# Altium schematic symbol library STM32 V3.1.SCHLIB: 51 symbols
Pins are listed as number, name and electrical type; pins without a type are passive.

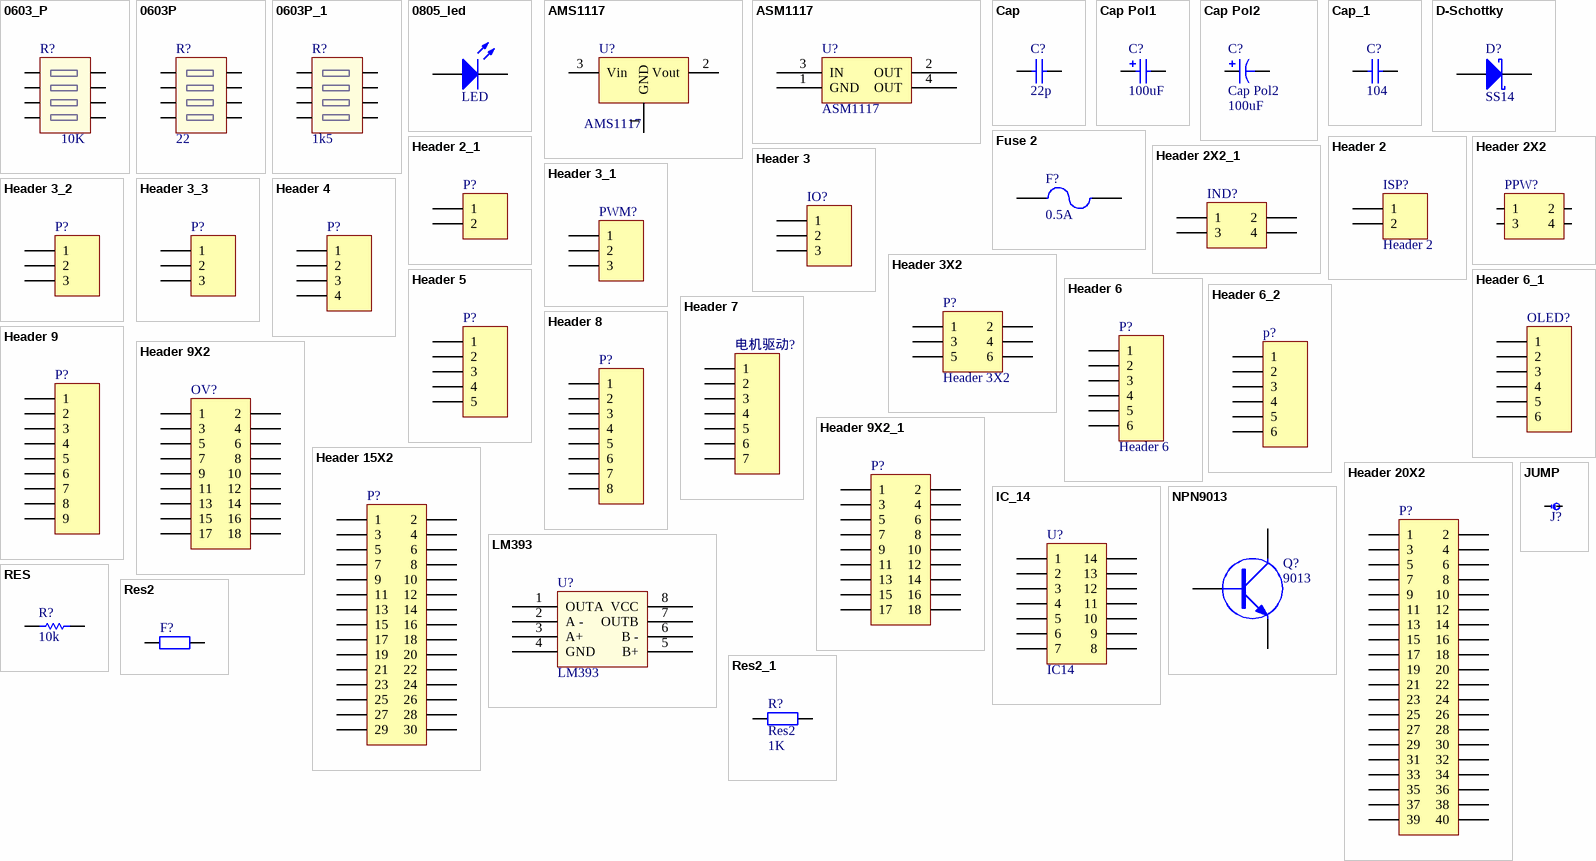
[diagram p0: symbols 0603_P to Res2_1]

## 0603_P
designator R?, comment 10K
footprint 0603_P
pins: 1, 2, 3, 4, 5, 6, 7, 8

## 0603P
designator R?, comment 22
footprint 0603_P
pins: 1, 2, 3, 4, 5, 6, 7, 8

## 0603P_1
designator R?, comment 1k5
footprint 0603排阻
footprint 0603_P
pins: 1, 2, 3, 4, 5, 6, 7, 8

## 0805_led
designator LED?, comment LED
footprint LED （大）
footprint LED（小）
footprint 0805
footprint led_0805
footprint 0805_led
pins: 1, 2

## AMS1117
designator U?
3.3V电压转换器AMS1117
footprint SOT_223 (电压转换芯片)
pins: 1 GND, 2 Vout, 3 Vin

## ASM1117
designator U?
3.3V稳压芯片
footprint SOT_223 (电压转换芯片)
pins: 1 GND, 2 OUT, 3 IN, 4 OUT

## Cap
designator C?  value 22p  (hidden comment: Cap)
footprint 0603_cap
footprint 0805_CAP
footprint 1206 _CAP
footprint Cap_tan
footprint CBB-200
footprint CBB-400
footprint C-CHIPIAN
footprint 0603_ca
pins: 1, 2

## Cap Pol1
designator C?  value 100uF  (hidden comment: Cap Pol1)
Polarized Capacitor (Radial); Published: 8-Jun-2000; Revision: July-2002: Re-released for DXP Platform.; Publisher: Altium Limited
footprint SMD-EC-F10 (Footprint not found)
simulation model CAP (Capacitor)
signal-integrity model Cap Pol
footprint CAPPR1.5-4X5
footprint CAPPR1.27-1.96X4.06
footprint CAPPR2-5X6.8
footprint CAPPR5-5X5
footprint CAPPR7.5-16X35
pins: 1, 2

## Cap Pol2
designator C?  value 100uF
Polarized Capacitor (Axial); Published: 8-Jun-2000; Revision: July-2002: Re-released for DXP Platform.; Publisher: Altium Limited
footprint SMD-EC-F6.3 (Footprint not found)
simulation model CAP (Capacitor)
signal-integrity model Cap Pol
footprint CAPPA14.05-10.5x6.3
footprint CAPPA23.6-18.5x8.5
footprint CAPPA31.6-26.5x12.5
footprint CAPPA35.6-30.5x18.5
footprint CAPPA46.1-41x21.5
pins: 1, 2

## Cap_1
designator C?, comment value 104  (hidden comment: Cap)
无极性电容; Published: 8-Jun-2000; LatestRevisionDate: 17-Jul-2002; LatestRevisionNote: Re-released for DXP Platform.; PackageReference: RAD-0.3; Publisher: Altium Limited
footprint C-RAD (瓷片电容)
footprint C-RAD-0805 (贴片电容)
footprint 0805
footprint 0603-2 (贴片无丝印)
footprint 0805-2 (贴片无丝印)
footprint C-RAD-3528 (贴片电容)
footprint 0805_cap
pins: 1, 2

## D-Schottky
designator D?  Type: SS14  (hidden comment: D-Schottky)
肖特基二极管; Published: 8-Jun-2000; LatestRevisionDate: 17-Jul-2002; LatestRevisionNote: Re-released for DXP Platform.; PackageReference: SMB; Publisher: Altium Limited; Code_JEDEC: DO-214-AA
footprint SMA (DO-214AC(2010))
footprint DIODE-SMC (SS34贴片肖特基二极管)
footprint DIODE-SMB (DO-214-AA/SMB; 2 C-Bend Leads; Body 5.3 x 3.6 mm, inc. leads (LxW))
pins: 1 A, 2 K

## Fuse 2
designator F?, comment value 0.5A  (hidden comment: Fuse)
保险丝; Published: 8-Jun-2000; LatestRevisionDate: 17-Jul-2002; LatestRevisionNote: Re-released for DXP Platform.; PackageReference: PIN-W2/E2.8; Publisher: Altium Limited
footprint 1206
pins: 1, 2

## Header 2
designator ISP?
Header, 2-Pin; LatestRevisionDate: 17-Jul-2002; LatestRevisionNote: Re-released for DXP Platform.; Publisher: Altium Limited
footprint HDR1X2 (Connector; Header; 2 Position)
signal-integrity model Connector
pins: 1, 2

## Header 2_1
designator P?, comment Header 2  (value not drawn)
Header, 2-Pin; LatestRevisionDate: 17-Jul-2002; LatestRevisionNote: Re-released for DXP Platform.; Publisher: Altium Limited
footprint kf142r
signal-integrity model Connector
pins: 1, 2

## Header 2X2
designator PPW?  (value not drawn)
Header, 2-Pin, Dual row; LatestRevisionDate: 17-Jul-2002; LatestRevisionNote: Re-released for DXP Platform.; Publisher: Altium Limited
footprint 稳压模块
signal-integrity model Connector
pins: 1, 2, 3, 4

## Header 2X2_1
designator IND?, comment Header 2X2  (value not drawn)
Header, 2-Pin, Dual row; LatestRevisionDate: 17-Jul-2002; LatestRevisionNote: Re-released for DXP Platform.; Publisher: Altium Limited
footprint IND_R10
signal-integrity model Connector
pins: 1, 2, 3, 4

## Header 3
designator IO?  (value not drawn)
Header, 3-Pin; LatestRevisionDate: 17-Jul-2002; LatestRevisionNote: Re-released for DXP Platform.; Publisher: Altium Limited
footprint HDR1X3 (Connector; Header; 3 Position)
signal-integrity model Connector
footprint HDR1X3H
footprint HDR1X3_
footprint HDR1X2_
pins: 1, 2, 3

## Header 3_1
designator PWM?, comment Header 3  (value not drawn)
Header, 3-Pin; LatestRevisionDate: 17-Jul-2002; LatestRevisionNote: Re-released for DXP Platform.; Publisher: Altium Limited
footprint HDR1X3
signal-integrity model Connector
footprint HDR1X3_
footprint HDR1X2_
pins: 1, 2, 3

## Header 3_2
designator P?, comment Header 3  (value not drawn)
Header, 3-Pin; LatestRevisionDate: 17-Jul-2002; LatestRevisionNote: Re-released for DXP Platform.; Publisher: Altium Limited
footprint HDR1X3_
signal-integrity model Connector
footprint HDR1X3_
footprint HDR1X2_
pins: 1, 2, 3

## Header 3_3
designator P?, comment Header 3  (value not drawn)
Header, 3-Pin; LatestRevisionDate: 17-Jul-2002; LatestRevisionNote: Re-released for DXP Platform.; Publisher: Altium Limited
signal-integrity model Connector
pins: 1, 2, 3

## Header 3X2
designator P?
Header, 3-Pin, Dual row; LatestRevisionDate: 17-Jul-2002; LatestRevisionNote: Re-released for DXP Platform.; Publisher: Altium Limited
footprint HDR2X3_
signal-integrity model Connector
pins: 1, 2, 3, 4, 5, 6

## Header 4
designator P?  (value not drawn)
Header, 4-Pin; LatestRevisionDate: 17-Jul-2002; LatestRevisionNote: Re-released for DXP Platform.; Publisher: Altium Limited
footprint HDR1X4
signal-integrity model Connector
pins: 1, 2, 3, 4

## Header 5
designator P?  (value not drawn)
Header, 5-Pin; LatestRevisionDate: 17-Jul-2002; LatestRevisionNote: Re-released for DXP Platform.; Publisher: Altium Limited
footprint a05 (Footprint not found)
signal-integrity model Connector
pins: 1, 2, 3, 4, 5

## Header 6
designator P?
Header, 6-Pin; LatestRevisionDate: 17-Jul-2002; LatestRevisionNote: Re-released for DXP Platform.; Publisher: Altium Limited
footprint HDR1X6 (Connector; Header; 6 Position)
signal-integrity model Connector
pins: 1, 2, 3, 4, 5, 6

## Header 6_1
designator OLED?, comment Header 6  (value not drawn)
Header, 6-Pin; Revision: 17-Jul-2002: Re-released for DXP Platform.; Publisher: Altium Limited
footprint HDR1X6_
signal-integrity model Connector
pins: 1, 2, 3, 4, 5, 6

## Header 6_2
designator p?, comment Header 6  (value not drawn)
Header, 6-Pin; Revision: 17-Jul-2002: Re-released for DXP Platform.; Publisher: Altium Limited
footprint HDR1X6
signal-integrity model Connector
pins: 1, 2, 3, 4, 5, 6

## Header 7
designator 电机驱动?  (value not drawn)
Header, 7-Pin; LatestRevisionDate: 17-Jul-2002; LatestRevisionNote: Re-released for DXP Platform.; Publisher: Altium Limited
footprint HDR1X7
signal-integrity model Connector
pins: 1, 2, 3, 4, 5, 6, 7

## Header 8
designator P?  (value not drawn)
Header, 8-Pin; LatestRevisionDate: 17-Jul-2002; LatestRevisionNote: Re-released for DXP Platform.; Publisher: Altium Limited
footprint HDR1X8_
signal-integrity model Connector
pins: 1, 2, 3, 4, 5, 6, 7, 8

## Header 9
designator P?  (value not drawn)
Header, 9-Pin; LatestRevisionDate: 17-Jul-2002; LatestRevisionNote: Re-released for DXP Platform.; Publisher: Altium Limited
footprint A09
signal-integrity model Connector
pins: 1, 2, 3, 4, 5, 6, 7, 8, 9

## Header 9X2
designator OV?  (value not drawn)
Header, 9-Pin, Dual row; LatestRevisionDate: 17-Jul-2002; LatestRevisionNote: Re-released for DXP Platform.; Publisher: Altium Limited
footprint IDC18
signal-integrity model Connector
pins: 1, 2, 3, 4, 5, 6, 7, 8, 9, 10, 11, 12, 13, 14, 15, 16, 17, 18

## Header 9X2_1
designator P?, comment Header 9X2  (value not drawn)
Header, 9-Pin, Dual row; LatestRevisionDate: 17-Jul-2002; LatestRevisionNote: Re-released for DXP Platform.; Publisher: Altium Limited
footprint JTAG_18
signal-integrity model Connector
pins: 1, 2, 3, 4, 5, 6, 7, 8, 9, 10, 11, 12, 13, 14, 15, 16, 17, 18

## Header 15X2
designator P?, comment Header 15X2_  (value not drawn)
Header, 15-Pin, Dual row; LatestRevisionDate: 17-Jul-2002; LatestRevisionNote: Re-released for DXP Platform.; Publisher: Altium Limited
footprint HDR2X15_ (Footprint not found)
signal-integrity model Connector
footprint HDR2X15___
pins: 1, 2, 3, 4, 5, 6, 7, 8, 9, 10, 11, 12, 13, 14, 15, 16, 17, 18, 19, 20, 21, 22, 23, 24, 25, 26, 27, 28, 29, 30

## Header 20X2
designator P?  (value not drawn)
Header, 20-Pin, Dual row; LatestRevisionDate: 17-Jul-2002; LatestRevisionNote: Re-released for DXP Platform.; Publisher: Altium Limited
footprint TFT_2.4
signal-integrity model Connector
footprint Model Name (Model Description)
pins: 1, 2, 3, 4, 5, 6, 7, 8, 9, 10, 11, 12, 13, 14, 15, 16, 17, 18, 19, 20, 21, 22, 23, 24, 25, 26, 27, 28, 29, 30, 31, 32, 33, 34, 35, 36, 37, 38, 39, 40

## IC_14
designator U?, comment IC14
footprint SOP_14
pins: 1, 2, 3, 4, 5, 6, 7, 8, 9, 10, 11, 12, 13, 14

## JUMP
designator J?  (value not drawn)
footprint JUMP
pins: 1, 2

## LM393
designator U?
footprint SOP_8
pins: 1 OUTA, 2 A -, 3 A+, 4 GND, 5 B+, 6 B -, 7 OUTB, 8 VCC

## NPN9013
designator Q?, comment 9013
footprint SOT_23_3; pin to pad 1>2 2>1
footprint 901# (大)
pins: 1 E, 2 B, 3 C

## RES
designator R?  value 10k  (hidden comment: RES)
footprint RESG
footprint 0805
footprint 0402 (Chip Capacitor; Body 1.0 x 0.5 mm (LxW typ))
footprint 0603
footprint 1206
footprint 1210L
footprint 1812 (Chip Capacitor; Body 4.5 x 3.2 mm (LxW typ))
footprint 2012L
footprint RES12W
footprint RESW
footprint RESGL
footprint RESYGS
footprint RESWGS
footprint RESYS
footprint RESWL
footprint RESGM
footprint RESP
footprint 0603
footprint 0603_RES
footprint 0805_RES
pins: 1, 2

## Res2
designator F?  (value not drawn)
Resistor; Value: 1K; Published: 8-Jun-2000; LatestRevisionDate: 17-Jul-2002; LatestRevisionNote: Re-released for DXP Platform.; PackageReference: AXIAL-0.4; Publisher: Altium Limited
footprint 0805_RES
simulation model RESISTOR (Resistor)
signal-integrity model Res
pins: 1, 2

## Res2_1
designator R?, comment Res2  value 1K
Resistor; Published: 8-Jun-2000; LatestRevisionDate: 17-Jul-2002; LatestRevisionNote: Re-released for DXP Platform.; PackageReference: AXIAL-0.4; Publisher: Altium Limited
footprint AXIAL-0.4 (Axial Device, Thru-Hole; 2 Leads; 0.4 in Pin Spacing)
simulation model RESISTOR (Resistor)
signal-integrity model Res
footprint 0805
footprint 0805_res
pins: 1, 2

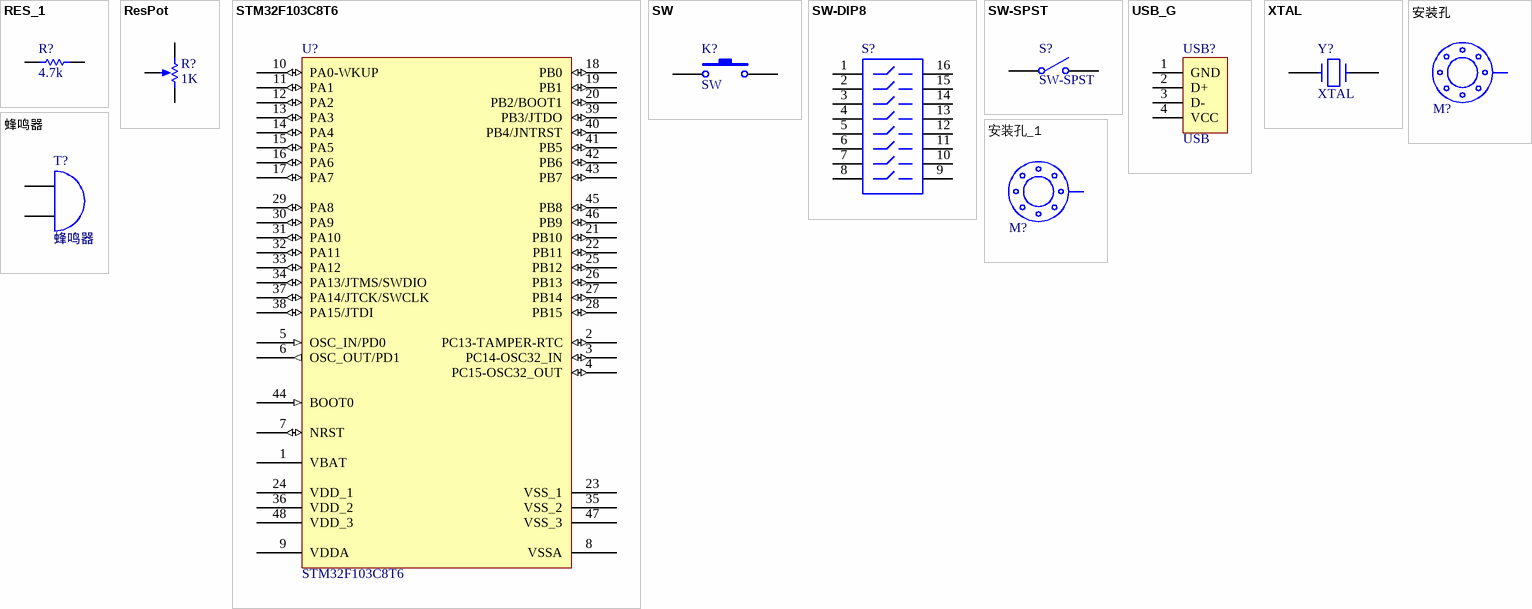
[diagram p1: symbols RES_1 to 蜂鸣器]

## RES_1
designator R?, comment value 4.7k  (hidden comment: RES)
footprint RESG
footprint 0805
footprint 0402 (Chip Capacitor; Body 1.0 x 0.5 mm (LxW typ))
footprint 0603
footprint 1206
footprint 1210L
footprint 1812 (Chip Capacitor; Body 4.5 x 3.2 mm (LxW typ))
footprint 2012L
footprint RES12W
footprint RESW
footprint RESGL
footprint RESYGS
footprint RESWGS
footprint RESYS
footprint RESWL
footprint RESGM
footprint RESP
footprint 0603
footprint 0603_RES
pins: 1, 2

## ResPot
designator R?  value 1K  (hidden comment: ResPot)
Potentiometer; Sim Note: Enter the Resistance value and the set point into parameter fields.; Set Position: 0.5; Published: 8-Jun-2000; LatestRevisionDate: 17-Jul-2002; LatestRevisionNote: Re-released for DXP Platform.; PackageReference: VR5; Publisher: Altium Limited
footprint VR5 (Variable Resistor, Thru-Hole; 3 Leads)
simulation model POT (Potentiometer)
footprint 电位器
footprint 369-03
pins: 1 TOP, 2 TAP, 3 BOT
1 alternate drawing of the same symbol

## STM32F103C8T6
designator U?
STM32 ARM-based 32-bit MCU with 64 Kbytes Flash, 48-pin LQFP, Industrial Temperature; Published: 30-May-2008; DatasheetVersion: rev6, Mar-2008; PackageVersion: Mar-2008; PackageReference: LQFP48; Publisher: Altium Limited; PackageDescription: 48-Pin Low-Profile Quad Flat Pack, 7 x 7 mm Body, 0.5 mm Pitch (LQFP48); ComponentLink1Description: Manufacturer Link; ComponentLink1URL: www.st.com/stm32; ComponentLink2Description: Datasheet; ComponentLink2URL: http://www.st.com/stonline/products/literature/ds/13587.pdf
footprint LQFP_48 (Thin QFP, 48-Leads, Body 7x7mm, Pitch 0.5mm, IPC Medium Density)
footprint LQFP48_L (Thin QFP, 48-Leads, Body 7x7mm, Pitch 0.5mm, IPC High Density)
footprint LQFP48_M (Thin QFP, 48-Leads, Body 7x7mm, Pitch 0.5mm, IPC Low Density)
pins: 1 VBAT (power), 2 PC13-TAMPER-RTC (io), 3 PC14-OSC32_IN (io), 4 PC15-OSC32_OUT (io), 5 OSC_IN/PD0 (in), 6 OSC_OUT/PD1 (out), 7 NRST (io), 8 VSSA (power), 9 VDDA (power), 10 PA0-WKUP (io), 11 PA1 (io), 12 PA2 (io), 13 PA3 (io), 14 PA4 (io), 15 PA5 (io), 16 PA6 (io), 17 PA7 (io), 18 PB0 (io), 19 PB1 (io), 20 PB2/BOOT1 (io), 21 PB10 (io), 22 PB11 (io), 23 VSS_1 (power), 24 VDD_1 (power), 25 PB12 (io), 26 PB13 (io), 27 PB14 (io), 28 PB15 (io), 29 PA8 (io), 30 PA9 (io), 31 PA10 (io), 32 PA11 (io), 33 PA12 (io), 34 PA13/JTMS/SWDIO (io), 35 VSS_2 (power), 36 VDD_2 (power), 37 PA14/JTCK/SWCLK (io), 38 PA15/JTDI (io), 39 PB3/JTDO (io), 40 PB4/JNTRST (io), 41 PB5 (io), 42 PB6 (io), 43 PB7 (io), 44 BOOT0 (in), 45 PB8 (io), 46 PB9 (io), 47 VSS_3 (power), 48 VDD_3 (power)

## SW
designator K?
footprint SW_6*6 _l
pins: 1, 2

## SW-DIP8
designator S?  (value not drawn)
4009 Series DIP Switch, Raised actuator; Published: 24-Mar-1999; LatestRevisionDate: 17-Dec-2003; LatestRevisionNote: PCB Footprint replaced.; PackageReference: DIP-16-KEY; Publisher: Altium Limited; ComponentLink1Description: Manufacturer Link; ComponentLink1URL: http://www.oupiin.com/prodindx.html#Headers
footprint SW_8WAY
simulation model dpsw8 (Spice Subcircuit)
pins: 1, 2, 3, 4, 5, 6, 7, 8, 9, 10, 11, 12, 13, 14, 15, 16

## SW-SPST
designator S?
Single-Pole, Single-Throw Switch; Published: 24-Mar-1999; Revision: July-2002: Re-released for DXP Platform.; Publisher: Altium Limited
footprint SW-TO3; pin to pad 1>2 2>1
pins: 1 COMMON, 2 NO

## USB_G
designator USB?, comment USB
footprint USB_B_M; pin to pad 1>4 2>3 3>2 4>1
pins: 1 GND, 2 D+, 3 D-, 4 VCC

## XTAL
designator Y?
footprint XTAL(7050)
footprint XTAL
footprint XTAL32
footprint XTAL-RAD-0.2
footprint XTAL_l
footprint XTLL
pins: 1, 2

## 安装孔
designator M?  (value not drawn)
螺丝固定孔
footprint M3螺丝孔
footprint M3螺丝孔_1
pins: 1 P

## 安装孔_1
designator M?, comment 安装孔  (value not drawn)
螺丝固定孔
footprint M3螺丝孔
pins: 1 P

## 蜂鸣器
designator T?
footprint 蜂鸣器
pins: 1, 2 1